# EAGLE library part AT45DBXXXD (library carrilib)
Flash Memory IC Manufacturer: Atmel Part Number: AT45DB???D
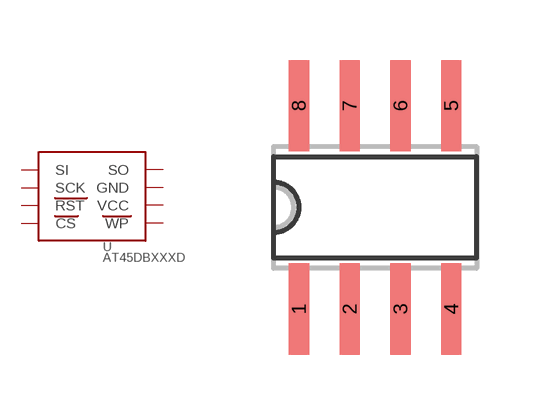
[diagram p0: symbol with the pads of SO08; footprint SO08]

Designator prefix U

## AT45DBXXXD  [SO08]
1  SI
2  SCK
3  RST
4  CS
5  WP
6  VCC
7  GND
8  SO

## Footprint SO08 (pad centres in mm)
smd 0.508 x 2.286: 1 -1.905,-2.54; 2 -0.635,-2.54; 3 0.635,-2.54; 4 1.905,-2.54; 5 1.905,2.54; 6 0.635,2.54; 7 -0.635,2.54; 8 -1.905,2.54